# Altium footprint library PcbLib1.PcbLib: 2 footprints
Each footprint in its own frame and in the unit in brackets; x right, y up, seen from the top. Pads: shape width x height; smd on the part's side, far side on the other; paste and mask are expansions set on the pad; w line width, h text height; cw(c..) or ccw(c..) is an arc to the next point about the centre after c.
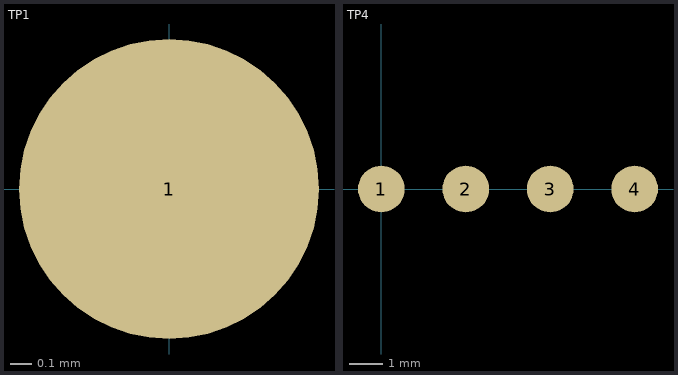
[diagram p0: the footprints below, top view; thin cyan lines are the x and y axes]

## TP1 [mm]
pads (1):
  round 1.4 smd: 1(0,0)

## TP4 [mm]
pads (4):
  round 1.4 smd: 1(0,0) 2(2.54,0) 3(5.08,0) 4(7.62,0)